# Altium footprint library Estacion_Meteorologica_Final.PcbLib: 55 footprints (part 3 of 4)
Each footprint in its own frame and in the unit in brackets; x right, y up, seen from the top. Pads: shape width x height; smd on the part's side, far side on the other; paste and mask are expansions set on the pad; w line width, h text height; cw(c..) or ccw(c..) is an arc to the next point about the centre after c.
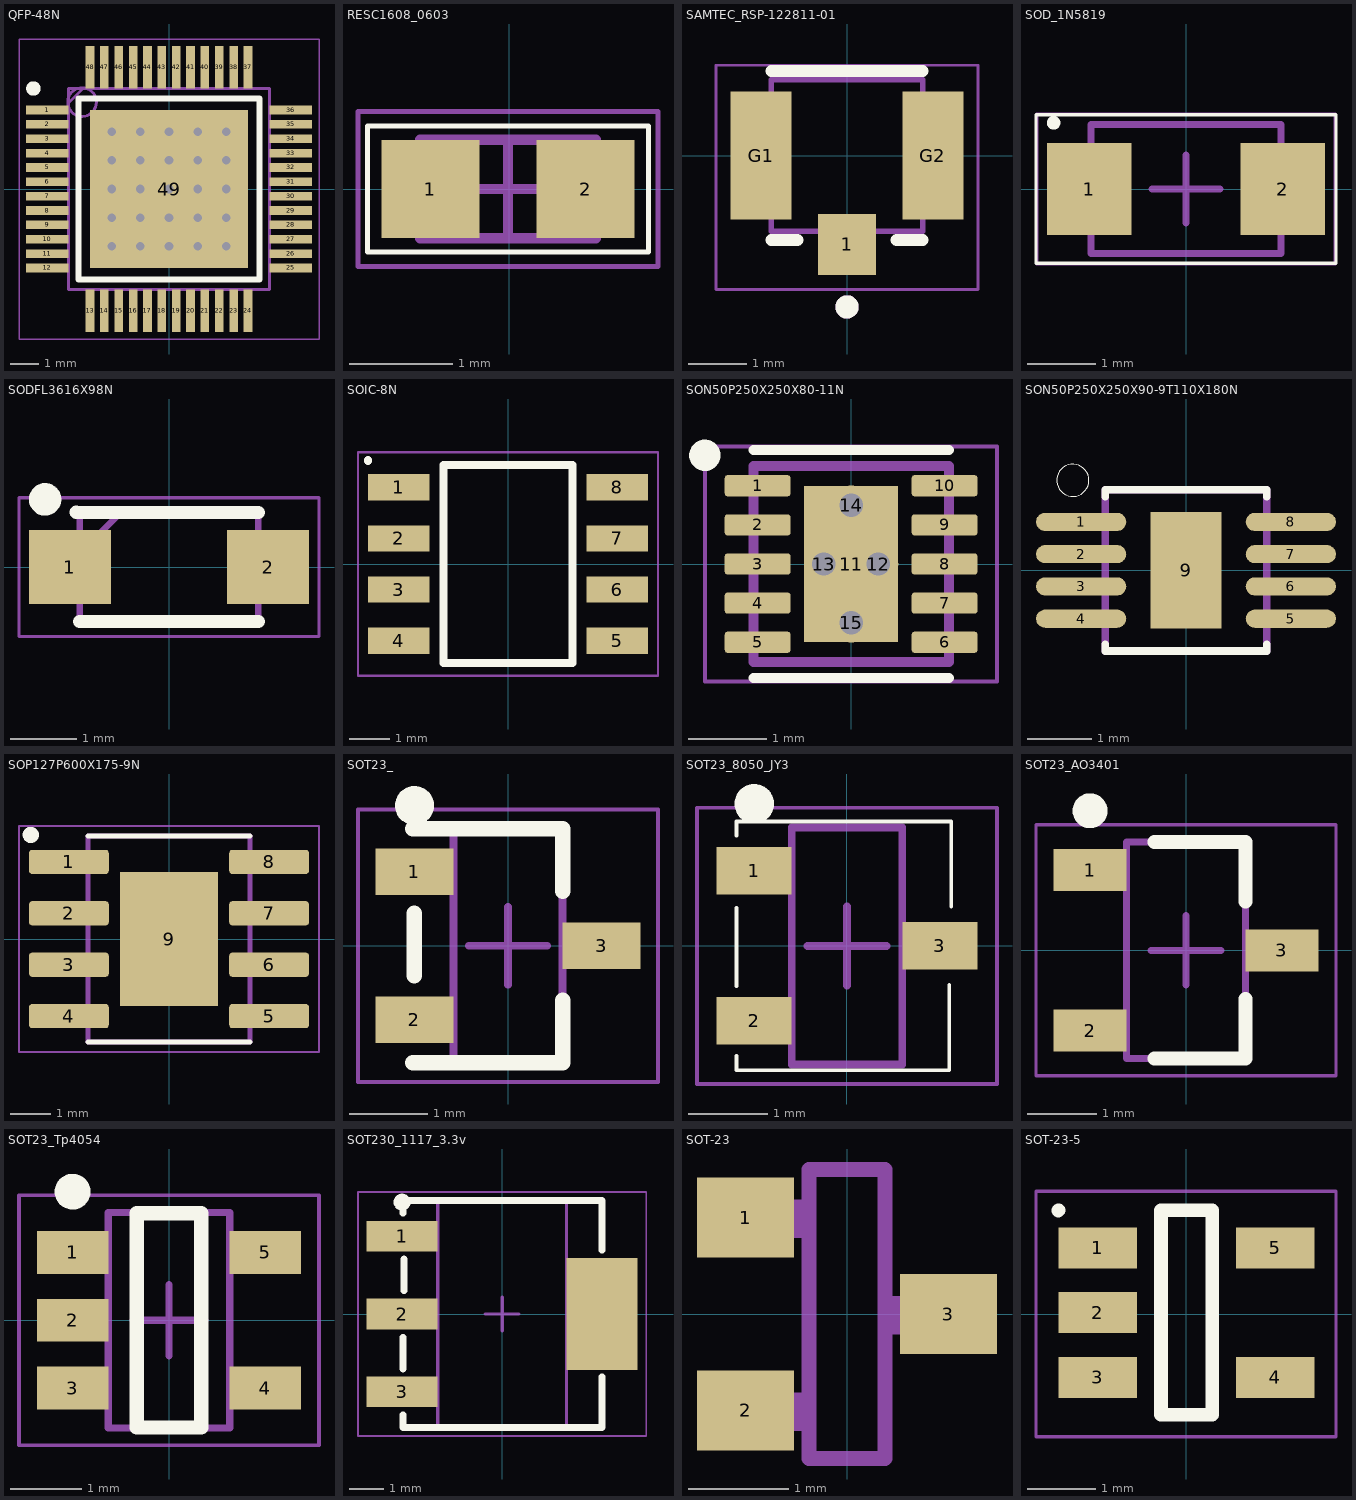
[diagram p2: the footprints below, top view; thin cyan lines are the x and y axes]

## QFP-48N [mm]
pads (49):
  rect 1.475x0.3 smd mask+0.051: 1(-4.238,2.75) 2(-4.238,2.25) 3(-4.238,1.75) 4(-4.238,1.25) 5(-4.238,0.75) 6(-4.238,0.25) 7(-4.238,-0.25) 8(-4.238,-0.75) 9(-4.238,-1.25) 10(-4.238,-1.75) 11(-4.238,-2.25) 12(-4.238,-2.75) 25(4.238,-2.75) 26(4.238,-2.25) 27(4.238,-1.75) 28(4.238,-1.25) 29(4.238,-0.75) 30(4.238,-0.25) 31(4.238,0.25) 32(4.238,0.75) 33(4.238,1.25) 34(4.238,1.75) 35(4.238,2.25) 36(4.238,2.75)
  rect 0.3x1.475 smd mask+0.051: 13(-2.75,-4.238) 14(-2.25,-4.238) 15(-1.75,-4.238) 16(-1.25,-4.238) 17(-0.75,-4.238) 18(-0.25,-4.238) 19(0.25,-4.238) 20(0.75,-4.238) 21(1.25,-4.238) 22(1.75,-4.238) 23(2.25,-4.238) 24(2.75,-4.238) 37(2.75,4.238) 38(2.25,4.238) 39(1.75,4.238) 40(1.25,4.238) 41(0.75,4.238) 42(0.25,4.238) 43(-0.25,4.238) 44(-0.75,4.238) 45(-1.25,4.238) 46(-1.75,4.238) 47(-2.25,4.238) 48(-2.75,4.238)
  rect 5.5x5.5 smd mask+0.051: 49(0,0)
via 0,1 diameter 0.508 hole 0.3
via -1,0 diameter 0.508 hole 0.3
via 0,-1 diameter 0.508 hole 0.3
via 0,0 diameter 0.508 hole 0.3
via -2,0 diameter 0.508 hole 0.3
via 1,0 diameter 0.508 hole 0.3
via 2,0 diameter 0.508 hole 0.3
via 0,2 diameter 0.508 hole 0.3
via 0,-2 diameter 0.508 hole 0.3
via 1,1 diameter 0.508 hole 0.3
via -1,1 diameter 0.508 hole 0.3
via -2,1 diameter 0.508 hole 0.3
via 2,1 diameter 0.508 hole 0.3
via 1,2 diameter 0.508 hole 0.3
via 2,2 diameter 0.508 hole 0.3
via -1,2 diameter 0.508 hole 0.3
via -2,2 diameter 0.508 hole 0.3
via -1,-1 diameter 0.508 hole 0.3
via -2,-1 diameter 0.508 hole 0.3
via -1,-2 diameter 0.508 hole 0.3
via -2,-2 diameter 0.508 hole 0.3
via 1,-1 diameter 0.508 hole 0.3
via 2,-1 diameter 0.508 hole 0.3
via 1,-2 diameter 0.508 hole 0.3
via 2,-2 diameter 0.508 hole 0.3
Top Overlay:
  circle w0.25: c-4.725,3.5 r0.125
  lines w0.2: -3.15,-3.15 -3.15,3.15 3.15,3.15 3.15,-3.15 -3.15,-3.15
Mechanical 13:
  circle w0.1: c-3.03,3.025 r0.5
Mechanical 15:
  lines w0.1: -3.5,3 -3,3.5 ; -0.5,0 0.5,0 ; 0,-0.5 0,0.5 ; -3.5,-3.5 -3.5,3.5 3.5,3.5 3.5,-3.5 -3.5,-3.5
Mechanical 20:
  lines w0.05: -5.225,-5.225 -5.225,5.225 5.225,5.225 5.225,-5.225 -5.225,-5.225
3D body "ATSAMD21G18A-AU.stp": height 1.2, standoff 0, extent -4.5,-4.5 4.5,4.5

## RESC1608_0603 [mm]
pads (2):
  rect 0.95x0.95 smd: 1(-0.763,0) 2(0.737,0)
Top Overlay:
  lines w0.05: -1.372,-0.61 1.346,-0.61 1.346,0.61 -1.372,0.61 -1.372,-0.61
Mechanical 13:
  lines w0.1: -0.863,-0.475 0.837,-0.475 0.837,0.475 -0.863,0.475 -0.863,-0.475
Mechanical 15:
  lines w0.05: -1.463,-0.75 1.437,-0.75 1.437,0.75 -1.463,0.75 -1.463,-0.75
  lines w0.1: -0.488,0 0.462,0 ; -0.013,-0.475 -0.013,0.475
3D body "Res0603.stp": height 0.45, standoff 0, extent -0.8,-0.4 0.8,0.4

## SAMTEC_RSP-122811-01 [mm]
pads (3):
  rect 1x1.05 smd: 1(0,-1.525)
  rect 1.05x2.2 smd: G1(-1.475,0) G2(1.475,0)
Top Overlay:
  circle w0.2: c0,-2.6 r0.1
  lines w0.2: -1.3,-1.45 -0.85,-1.45 ; -1.3,1.45 1.3,1.45 ; 0.85,-1.45 1.3,-1.45
Mechanical 13:
  circle w0.2: c0,-2.6 r0.1
  lines w0.1: -1.3,-1.3 -1.3,1.3 1.3,1.3 1.3,-1.3 -1.3,-1.3
Mechanical 15:
  lines w0.05: -2.25,-2.3 -2.25,1.55 2.25,1.55 2.25,-2.3 -2.25,-2.3
3D body "RSP-122811-01.stp": height 1.35, standoff 0.01, extent -1.5,-1.505 1.5,1.495

## SOD_1N5819 [mm] "SODFL, 2-Leads, Body 1.80x3.50mm, IPC Medium Density"
height 0.3
pads (2):
  rect 1.25x1.35 smd: 1(-1.425,0) 2(1.425,0)
Top Overlay:
  circle w0.1: c-1.95,0.975 r0.05
  lines w0.05: -2.21,-1.092 2.21,-1.092 2.21,1.092 -2.21,1.092 -2.21,-1.092
Mechanical 13:
  lines w0.1: -1.4,-0.95 1.4,-0.95 1.4,0.95 -1.4,0.95 -1.4,-0.95
Mechanical 15:
  lines w0.05: -2.2,-1.1 2.2,-1.1 2.2,1.1 -2.2,1.1 -2.2,-1.1
  lines w0.1: -0.5,0 0.5,0 ; 0,-0.5 0,0.5
3D body: height 0.3, standoff 0, extent -1.4,-0.95 1.4,0.95

## SODFL3616X98N [mm]
pads (2):
  rect 1.24x1.12 smd: 1(-1.5,0) 2(1.5,0)
Top Overlay:
  circle w0.254: c-1.875,1.024 r0.118
  lines w0.2: -1.402,0.831 1.35,0.825 ; -1.35,-0.825 1.35,-0.825
Mechanical 15:
  lines w0.1: -1.35,0.205 -0.73,0.825 ; -1.35,-0.825 -1.35,0.825 1.35,0.825 1.35,-0.825 -1.35,-0.825
Mechanical 20:
  lines w0.05: -2.27,-1.05 -2.27,1.05 2.27,1.05 2.27,-1.05 -2.27,-1.05
3D body "MBR120ESFT3G.stp": height 0.98, standoff 0, extent -1.803,-0.83 1.797,0.82

## SOIC-8N [mm]
pads (8):
  rect 1.525x0.65 smd: 1(-2.712,1.905) 2(-2.712,0.635) 3(-2.712,-0.635) 4(-2.712,-1.905) 5(2.712,-1.905) 6(2.712,-0.635) 7(2.712,0.635) 8(2.712,1.905)
Top Overlay:
  lines w0.2: -3.48,2.56 -3.475,2.58 ; -1.6,-2.462 -1.6,2.462 1.6,2.462 1.6,-2.462 -1.6,-2.462
Mechanical 20:
  lines w0.05: -3.725,-2.775 -3.725,2.775 3.725,2.775 3.725,-2.775 -3.725,-2.775
3D body "CAT24M01DWDLT3G.stp": height 1.75, standoff 0, extent -3.003,-2.455 2.997,2.445

## SON50P250X250X80-11N [mm]
pads (15):
  rrect25% 0.84x0.27 smd: 1(-1.195,1) 2(-1.195,0.5) 3(-1.195,0) 4(-1.195,-0.5) 5(-1.195,-1) 6(1.195,-1) 7(1.195,-0.5) 8(1.195,0) 9(1.195,0.5) 10(1.195,1)
  rect 1.2x2 smd paste-2: 11(0,0)
  round 0.508 hole 0.3 mask+0: 12(0.35,0) 13(-0.35,0) 14(0,0.75) 15(0,-0.75)
Top Overlay:
  circle w0.2: c-1.869,1.389 r0.1
  lines w0.127: -1.25,-1.455 1.25,-1.455 ; -1.25,1.455 1.25,1.455
Top Paste:
  region: 0.379,-0.633 -0.379,-0.633 -0.379,0.633 0.379,0.633
Mechanical 13:
  lines w0.127: -1.25,-1.25 1.25,-1.25 1.25,1.25 -1.25,1.25 -1.25,-1.25
Mechanical 15:
  lines w0.05: -1.865,-1.5 1.865,-1.5 1.865,1.5 -1.865,1.5 -1.865,-1.5

## SON50P250X250X90-9T110X180N [mm]
pads (9):
  oval 1.4x0.282 smd: 1(-1.625,0.75) 2(-1.625,0.25) 3(-1.625,-0.25) 4(-1.625,-0.75) 5(1.625,-0.75) 6(1.625,-0.25) 7(1.625,0.25) 8(1.625,0.75)
  rect 1.1x1.8 smd: 9(0,0)
Top Overlay:
  circle w0: c-1.754,1.395 r0.25
  lines w0.12: -1.25,-1.145 -1.25,-1.25 1.25,-1.25 1.25,-1.145 ; -1.25,1.145 -1.25,1.25 1.25,1.25 1.25,1.145
Mechanical 13:
  lines w0.12: -1.25,-1.25 -1.25,1.25 1.25,1.25 1.25,-1.25 -1.25,-1.25
3D body "step_temp.STEP": height 0.9, standoff 0, extent -1.251,-1.251 1.251,1.251

## SOP127P600X175-9N [mm]
height 1.75
pads (9):
  rrect25% 1.97x0.6 smd: 1(-2.475,1.905) 2(-2.475,0.635) 3(-2.475,-0.635) 4(-2.475,-1.905) 5(2.475,-1.905) 6(2.475,-0.635) 7(2.475,0.635) 8(2.475,1.905)
  rect 2.413x3.302 smd paste-3: 9(0,0)
Top Overlay:
  circle w0.2: c-3.419,2.576 r0.1
  lines w0.127: -2,-2.55 2,-2.55 ; -2,2.55 2,2.55
Top Paste:
  region: 0.645,-0.82 -0.645,-0.82 -0.645,0.82 0.645,0.82
Mechanical 13:
  lines w0.127: -2,-2.55 -2,2.55 2,2.55 2,-2.55 -2,-2.55
Mechanical 15:
  lines w0.05: -3.71,-2.8 -3.71,2.8 3.71,2.8 3.71,-2.8 -3.71,-2.8
3D body "step_temp.STEP": height 1.75, standoff 0, extent -3,-2.45 3,2.45

## SOT23_ [mm]
height 1.11
pads (3):
  rect 1x0.6 smd: 1(-1.2,0.95) 2(-1.2,-0.95) 3(1.2,0)
Top Overlay:
  circle w0.25: c-1.2,1.8 r0.125
  lines w0.2: -1.219,-1.5 0.7,-1.5 0.7,-0.7 ; -1.219,1.5 0.7,1.5 0.7,0.7 ; -1.205,-0.382 -1.205,0.418
Mechanical 13:
  lines w0.1: -0.7,-1.52 0.7,-1.52 0.7,1.524 -0.7,1.524 -0.7,-1.52
Mechanical 15:
  lines w0.05: -1.925,-1.75 1.925,-1.75 1.925,1.75 -1.925,1.75 -1.925,-1.75
  lines w0.1: -0.5,0 0.5,0 ; 0,-0.5 0,0.5
3D body "AP7375-33SA-7.stp": height 1.1, standoff 0, extent -1.203,-1.455 1.197,1.445

## SOT23_8050_JY3 [mm] "SOT23, 3-Leads, Body 2.90x2.40mm, Pitch 0.95mm, IPC Medium Density"
height 1.15
pads (3):
  rect 0.95x0.6 smd: 1(-1.175,0.95) 2(-1.175,-0.95) 3(1.175,0)
Top Overlay:
  circle w0.25: c-1.175,1.8 r0.125
  lines w0.05: -1.397,-1.397 -1.397,-1.575 1.295,-1.575 1.295,-0.494 ; -1.397,-0.508 -1.397,0.483 ; -1.397,1.397 -1.397,1.575 1.321,1.575 1.321,0.497
Mechanical 13:
  lines w0.1: -0.7,-1.5 0.7,-1.5 0.7,1.5 -0.7,1.5 -0.7,-1.5
Mechanical 15:
  lines w0.05: -1.9,-1.75 -1.9,1.75 1.9,1.75 1.9,-1.75 -1.9,-1.75
  lines w0.1: -0.5,0 0.5,0 ; 0,-0.5 0,0.5
3D body "jy3 transistor.stp": height 1, standoff -0.1, extent -1.245,-1.5 1.255,1.5

## SOT23_AO3401 [mm]
height 1.4
pads (3):
  rect 1.05x0.6 smd: 1(-1.375,1.15) 2(-1.375,-1.15) 3(1.375,0)
Top Overlay:
  circle w0.25: c-1.375,2 r0.125
  lines w0.2: -0.45,-1.55 0.85,-1.55 0.85,-0.7 ; -0.45,1.55 0.85,1.55 0.85,0.7
Mechanical 13:
  lines w0.1: -0.85,-1.55 -0.85,1.55 0.85,1.55 0.85,-1.55 -0.85,-1.55
Mechanical 15:
  lines w0.05: -2.15,-1.8 -2.15,1.8 2.15,1.8 2.15,-1.8 -2.15,-1.8
  lines w0.1: -0.5,0 0.5,0 ; 0,-0.5 0,0.5
3D body: height 1.4, standoff 0.1, extent -0.85,-1.55 0.85,1.55

## SOT23_Tp4054 [mm]
height 1.25
pads (5):
  rect 1x0.6 smd: 1(-1.35,0.95) 2(-1.35,0) 3(-1.35,-0.95) 4(1.35,-0.95) 5(1.35,0.95)
Top Overlay:
  circle w0.25: c-1.35,1.8 r0.125
  lines w0.2: -0.45,-1.5 -0.45,1.5 0.45,1.5 0.45,-1.5 -0.45,-1.5
Mechanical 13:
  lines w0.1: -0.85,-1.51 0.85,-1.51 0.85,1.51 -0.85,1.51 -0.85,-1.51
Mechanical 15:
  lines w0.05: -2.1,-1.75 2.1,-1.75 2.1,1.75 -2.1,1.75 -2.1,-1.75
  lines w0.1: -0.5,0 0.5,0 ; 0,-0.5 0,0.5
3D body "TP4054-42-SOT25-R.stp": height 1, standoff 0, extent -1.4,-1.45 1.4,1.45

## SOT230_1117_3.3v [mm] "SOT223, 4-Leads, Body 6.30x7.00mm (avg), Pitch 2.30mm, IPC Medium Density"
height 1.8
pads (4):
  rect 2.1x0.9 smd: 1(-2.95,2.3) 2(-2.95,0) 3(-2.95,-2.3)
  rect 2.1x3.3 smd: ""(2.95,0)
Top Overlay:
  circle w0.25: c-2.95,3.3 r0.125
  lines w0.2: -2.921,-2.972 -2.921,-3.35 2.946,-3.35 2.946,-1.854 ; -2.921,-1.626 -2.921,-0.689 ; -2.921,2.972 -2.921,3.35 2.946,3.35 2.946,1.88 ; -2.896,0.686 -2.896,1.623
Mechanical 13:
  lines w0.1: -1.9,-3.35 -1.9,3.35 1.9,3.35 1.9,-3.35 -1.9,-3.35
Mechanical 15:
  lines w0.05: -4.25,-3.6 -4.25,3.6 4.25,3.6 4.25,-3.6 -4.25,-3.6
  lines w0.1: -0.5,0 0.5,0 ; 0,-0.5 0,0.5
3D body "LM1117MP-3.3.stp": height 1.68, standoff 0, extent -3.5,-3.301 3.5,3.199

## SOT-23 [mil]
pads (3):
  rect 38.27x31.57 smd: 1(-40,38) 2(-40,-38) 3(40,0)
Mechanical 13:
  region: -17,30 -37,30 -37,45 -17,45
  region: -17,-46 -37,-46 -37,-31 -17,-31
  region: 37,-8 17,-8 17,7 37,7
  lines w6: -15,-57 -15,57 15,57 15,-57 -15,-57
3D body "step_temp.STEP": height 44.09, standoff 0, extent -46.65,-57.48 46.65,57.48

## SOT-23-5 [mm]
pads (5):
  rect 1.15x0.6 smd: 1(-1.292,0.97) 2(-1.292,0.02) 3(-1.292,-0.93) 4(1.308,-0.93) 5(1.308,0.97)
Top Overlay:
  lines w0.2: -1.872,1.519 -1.867,1.52 ; -0.367,-1.48 -0.367,1.52 0.383,1.52 0.383,-1.48 -0.367,-1.48
Mechanical 20:
  lines w0.05: -2.2,-1.8 2.2,-1.8 2.2,1.8 -2.2,1.8 -2.2,-1.8
3D body "AP2112K-3.3TRG1.stp": height 1.4, standoff 0, extent -1.422,-1.505 1.428,1.495